# Altium footprint library 4-794677-8.PcbLib: 1 footprints
Each footprint in its own frame and in the unit in brackets; x right, y up, seen from the top. Pads: shape width x height; smd on the part's side, far side on the other; paste and mask are expansions set on the pad; w line width, h text height; cw(c..) or ccw(c..) is an arc to the next point about the centre after c.
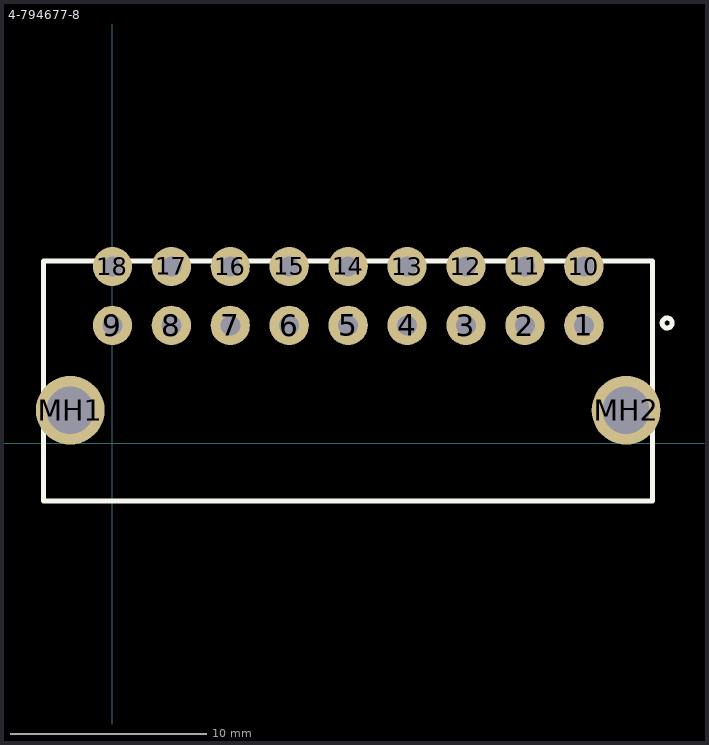
[diagram p0: the footprint, top view; thin cyan lines are the x and y axes]

## 4-794677-8 [mm] "18Pos Micro MNL Assy R/A, THRU"
pads (20):
  round 2 hole 1.02: 1(24,6) 2(21,6) 3(18,6) 4(15,6) 5(12,6) 6(9,6) 7(6,6) 8(3,6) 9(0,6) 10(24,9) 11(21,9) 12(18,9) 13(15,9) 14(12,9) 15(9,9) 16(6,9) 17(3,9) 18(0,9)
  round 3.5 hole 2.41: MH1(-2.15,1.68) MH2(26.15,1.68)
Top Overlay:
  circle w0.254: c28.245,6.121 r0.254
  lines w0.254: -3.5,-2.95 -3.5,9.29 27.5,9.29 27.5,-2.95 -3.5,-2.95
3D body "c-4-794677-8-j-3d.stp": height 8.73, standoff -2.99, extent -3.5,-2.95 27.5,9.29